# Altium schematic symbol library Potentiometre.SchLib: 2 symbols
Pins are listed as number, name and electrical type; pins without a type are passive.

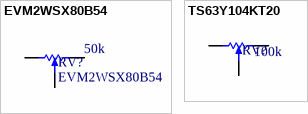
[diagram p0: symbols EVM2WSX80B54 to TS63Y104KT20]

## EVM2WSX80B54
designator RV?  value 50k
TRIMMER 50K OHM 0.15W SMD; Manufacturer: PANASONIC ELECTRONIC COMPONENTS; Power: 150mW; Manufacturer Part Number: EVM2WSX80B54; Supplier 1: Farnell; ComponentLink1URL: http://www.farnell.com/datasheets/2244143.pdf; ComponentLink1Description: Datasheet; Supplier Part Number 1: 1849775
footprint TRIM_PANASONIC_EVM-2W (SMT Trimmer Potentiometers)
pins: 1, 2, 3
2 alternate drawings of the same symbol

## TS63Y104KT20
designator RV?  value 100k  (hidden comment: TS63Y104KT20)
TRIMMER CMS 13 TOURS 100K; Manufacturer: VISHAY SFERNICE; Manufacturer Part Number: TS63Y104KT20; Supplier 1: Farnell; Supplier Part Number 1: 1141498; ComponentLink1URL: http://www.farnell.com/datasheets/2050493.pdf; ComponentLink1Description: Datasheet
footprint TS63Y (VISHAY SFERNICE  TS63Y104KT20  TRIMMER CMS 13 TOURS 100K)
pins: 1, 2, 3
2 alternate drawings of the same symbol